# Altium schematic symbol library 453lib.SchLib: 21 symbols
Pins are listed as number, name and electrical type; pins without a type are passive.

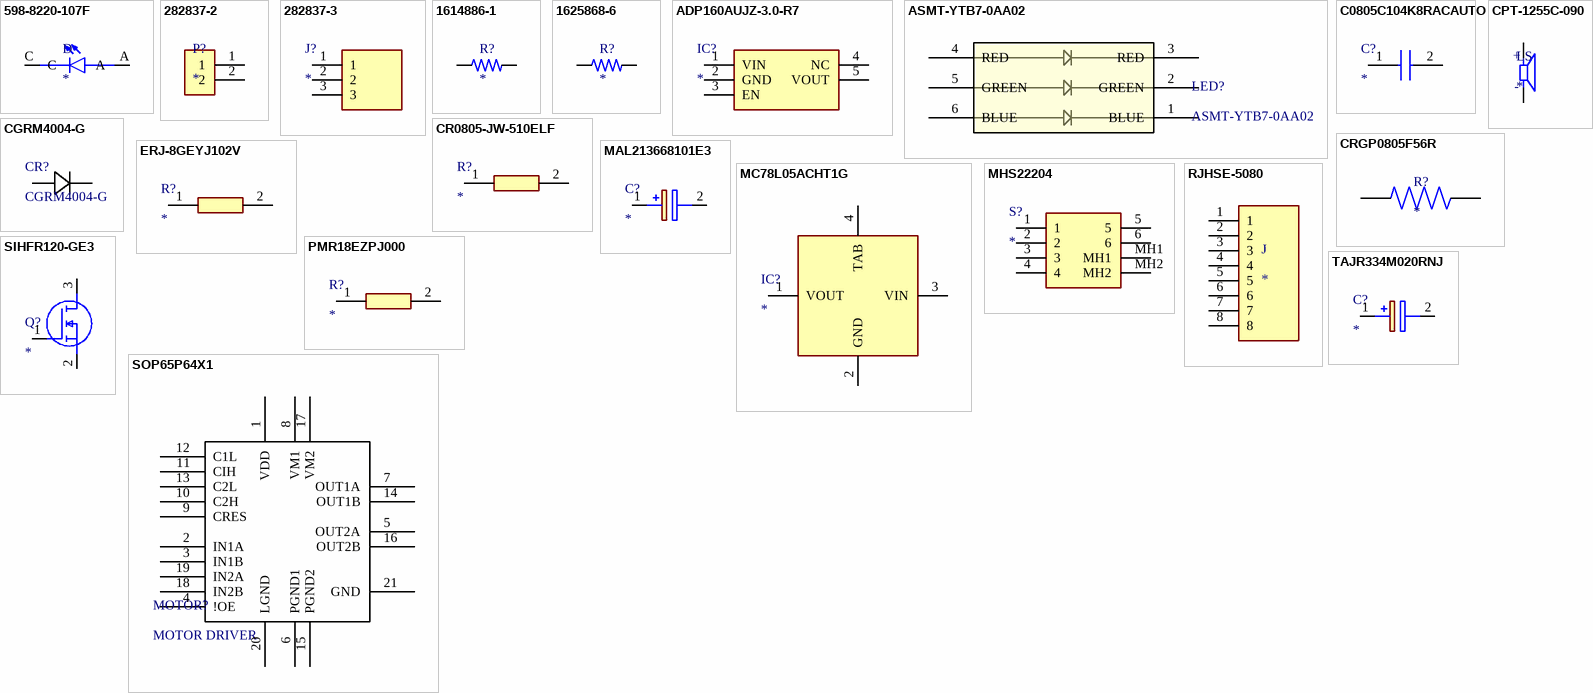
[diagram p0: symbols 598-8220-107F to TAJR334M020RNJ]

## 598-8220-107F
designator D
Red 625nm LED Indication - Discrete 2V 1206 _3216 Metric_; MP: 598-8220-107F; MF: Dialight; Value: *; Package: 1206 Dialight; SnapEDA_Link: https://www.snapeda.com/parts/598-8220-107F/Dialight/view-part/454138/?ref=snap
footprint LEDSC160X320X90-2N (Red Clear status LED)
pins: A, C

## 282837-2
designator P?
Connector Terminal Blocks Receptacle 2 Position 5.08mm Solder Straight Thru-Hole 13.5A/Contact; MF: TE Connectivity; MP: 282837-2; Price: None; Check_prices: https://www.snapeda.com/parts/282837-2/TE%20Connectivity%20AMP%20Connectors/view-part/2549980/?ref=eda; Package: None; Purchase-URL: https://pricing.snapeda.com/search/part/282837-2/?ref=eda; SnapEDA_Link: https://www.snapeda.com/parts/282837-2/TE%20Connectivity%20AMP%20Connectors/view-part/2549980/?ref=snap; Value: *; Availability: Good
footprint TE_282837-2 (Side entr dual screw down wire)
pins: 1, 2

## 282837-3
designator J?
Connector; Manufacturer_Name: TE Connectivity; Manufacturer_Part_Number: 282837-3; Height: 10.3mm
footprint 2828373 (3-pin connector)
pins: 1, 2, 3

## 1614886-1
designator R?
CPF0805 10K 0.1% 25PPM 5K RL; Power_Rating: .1 W; MP: 1614886-1; Tolerance: .1%; Voltage_Rating: 100 V; MF: TE Connectivity; Availability: Warning; Price: None; Package: 0805; Value: *; EU_RoHS_Compliance: Compliant; SnapEDA_Link: https://www.snapeda.com/parts/1614886-1/TE%20Connectivity/view-part/2202344/?ref=snap; Resistance: 10K; Check_prices: https://www.snapeda.com/parts/1614886-1/TE%20Connectivity/view-part/2202344/?ref=eda
footprint RESC2012X65N
pins: 1, 2

## 1625868-6
designator R?
Resistor 0805 200R 0.1% 25ppm (reel); MP: 1625868-6; Package: None; Price: None; Value: *; Availability: Unavailable
footprint RESC2012X65N
pins: 1, 2

## ADP160AUJZ-3.0-R7
designator IC?
Integrated Circuit; Manufacturer_Name: Analog Devices; Manufacturer_Part_Number: ADP160AUJZ-3.0-R7; Datasheet Link: https://componentsearchengine.com/Datasheets/2/ADP160AUJZ-3.0-R7.pdf; Height: 1mm
footprint TSOT23127P600-8N
pins: 1 VIN, 2 GND, 3 EN, 4 NC, 5 VOUT

## ASMT-YTB7-0AA02
designator LED?
RGB LED diffused; Mfr_Name: Broadcom; Type: DEV; Copyright: Copyright (C) 2022 Ultra Librarian. All rights reserved.; Manufacturer_Part_Number: ASMT-YTB7-0AA02; Digi-Key_Part_Number_1: ASMT-YTB7-0AA02-ND; Digi-Key_Part_Number_2: 516-3132-2-ND; Digi-Key_Part_Number_3: 516-3132-1-ND; Digi-Key_Part_Number_4: 516-3132-6-ND; RefDes: RefDes
footprint LED_ASMT-YTB2-0BB02
pins: 1 BLUE, 2 GREEN, 3 RED, 4 RED, 5 GREEN, 6 BLUE

## C0805C104K8RACAUTO
designator C?
0.1 uf Capacitor; Manufacturer_Name: Kemet; Manufacturer_Part_Number: C0805C104K8RACAUTO; Datasheet Link: https://ad.componentsearchengine.com/Datasheets/2/C0805C104K8RACAUTO.pdf; Height: 0.88mm
footprint CAPC2012X88N (0.1uf cap)
pins: 1, 2

## CGRM4004-G
designator CR?
Diode; Mfr_Name: Comchip; Type: DEV; Copyright: Copyright (C) 2022 Ultra Librarian. All rights reserved.; Manufacturer_Part_Number: CGRM4004-G; Digi-Key_Part_Number_1: 641-1329-1-ND; Digi-Key_Part_Number_2: 641-1329-2-ND; Digi-Key_Part_Number_3: 641-1329-2-NDL; Digi-Key_Part_Number_4: 641-1329-6-ND; RefDes: RefDes
footprint CGRM (diode)
pins: 1 11, 2 12

## CPT-1255C-090
designator LS
12 mm, 20 Vp-p, 80 dB, Through Hole, Piezo Audio Transducer Buzzer; MF: CUI Devices; MP: CPT-1255C-090; SnapEDA_Link: https://www.snapeda.com/parts/CPT-1255C-090/CUI%20Devices/view-part/2202985/?ref=snap; Availability: Unavailable; Price: None; Value: *
footprint CUI_CPT-1255C-090
pins: N, P
text: +; -

## CR0805-JW-510ELF
designator R?
51 ohm Resistor; Manufacturer_Name: Bourns; Manufacturer_Part_Number: CR0805-JW-510ELF; Datasheet Link: https://www.bourns.com/pdfs/chpreztr.pdf; Height: 0.6mm
footprint RESC2012X60N
pins: 1, 2

## CRGP0805F56R
designator R?
Fixed Resistor CRGP 0805 56R 1%; MP: CRGP0805F56R; Package: None; Price: None; Value: *; Availability: Unavailable
footprint RESC2012X65N
pins: 1, 2

## ERJ-8GEYJ102V
designator R?
Resistor; Manufacturer_Name: Panasonic; Manufacturer_Part_Number: ERJ-8GEYJ102V; Datasheet Link: http://industrial.panasonic.com/www-cgi/jvcr13pz.cgi?E+PZ+3+AOA0001+ERJ8GEYJ102V+7+WW; Height: 0.7mm
footprint RESC3116X70N
pins: 1, 2

## MAL213668101E3
designator C?
electrolytic Capacitor Polarised; Manufacturer_Name: Vishay; Manufacturer_Part_Number: MAL213668101E3; Datasheet Link: https://componentsearchengine.com//MAL213668101E3.pdf; Height: 17.5mm; Mouser2 Part Number: N/A; Mouser2 Price/Stock: https://www.mouser.com/Search/Refine.aspx?Keyword=N%2FA
footprint CAPPRD500W60D1050H1750 (100ufelectrolytic cap)
pins: 1 +, 2 -

## MC78L05ACHT1G
designator IC?
Integrated Circuit; Manufacturer_Name: ON Semiconductor; Manufacturer_Part_Number: MC78L05ACHT1G; Datasheet Link: https://componentsearchengine.com//MC78L05ACHT1G.pdf; Mouser2 Part Number: 863-MC78L05ACHT1G; Mouser2 Price/Stock: https://www.mouser.com/Search/Refine.aspx?Keyword=863-MC78L05ACHT1G
footprint SOT89-150P415X160-3N (SOT89, 3-Leads, Body 4.50x2.50mm, Pitch 1.50mm, Lead Span 4.2mm, IPC Medium Density)
pins: 1 VOUT, 2 GND, 3 VIN, 4 TAB

## MHS22204
designator S?
Switch; Manufacturer_Name: TE Connectivity; Manufacturer_Part_Number: MHS22204; Datasheet Link: https://componentsearchengine.com//MHS22204.pdf; Height: 12mm; Mouser2 Part Number: 506-MHS22204; Mouser2 Price/Stock: https://www.mouser.com/Search/Refine.aspx?Keyword=506-MHS22204
footprint MHS22204
pins: 1, 2, 3, 4, 5, 6, MH1, MH2

## PMR18EZPJ000
designator R?
Resistor; Manufacturer_Name: ROHM Semiconductor; Manufacturer_Part_Number: PMR18EZPJ000; Datasheet Link: https://fscdn.rohm.com/en/products/databook/datasheet/passive/resistor/chip_resistor/pmr-jpw-e.pdf; Height: 0.42mm
footprint RESC3216X42N
pins: 1, 2

## RJHSE-5080
designator J
Jack Modular Connector 8p8c (RJ45, Ethernet) 90Â° Angle (Right) Unshielded; MF: Amphenol Commercial Products; MP: RJHSE-5080; SnapEDA_Link: https://www.snapeda.com/parts/RJHSE-5080/Amphenol/view-part/4796273/?ref=snap; Package: None; Value: *; Digi-Key_Part_Number: RJHSE-5080-ND
footprint CONN_RJSBE5080_16P13X12P57_AMP (ethernet connector)
pins: 1, 2, 3, 4, 5, 6, 7, 8

## SIHFR120-GE3
designator Q?
MOSFET (N-Channel); Manufacturer_Name: Vishay; Manufacturer_Part_Number: SIHFR120-GE3; Datasheet Link: https://www.mouser.in/datasheet/2/427/91266-1768752.pdf; Height: 2.38mm; Mouser2 Part Number: 750-CGRM4004-G
footprint SIHFR120GE3
pins: 1 G, 2 S, 3 D

## SOP65P64X1
designator MOTOR?, comment MOTOR DRIVER
Dual Motor Driver; ComponentLink1Description: Manufacturer Part No.; ComponentLink1URL: MPC17529EJ; ComponentLink2Description: Manufacturer; ComponentLink2URL: NXP USA Inc.; ComponentLink3Description: Supplier Part No.; ComponentLink3URL: 568-13356-ND
footprint TSOP65P640X110_HS-21N (TSOP, 20-Leads, Body 6.50x4.40mm, Pitch 0.65mm, Thermal Pad 4.30x3.10mm, IPC Medium Density)
pins: 1 VDD, 2 IN1A, 3 IN1B, 4 !OE, 5 OUT2A, 6 PGND1, 7 OUT1A, 8 VM1, 9 CRES, 10 C2H, 11 CIH, 12 C1L, 13 C2L, 14 OUT1B, 15 PGND2, 16 OUT2B, 17 VM2, 18 IN2B, 19 IN2A, 20 LGND, 21 GND

## TAJR334M020RNJ
designator C?
0.33 uf Capacitor Polarised; Manufacturer_Name: AVX; Manufacturer_Part_Number: TAJR334M020RNJ; Height: 1.2mm
footprint CAPM3216X18N
pins: 1 +, 2 -